# Altium footprint library Lib_lhy - 副本.PcbLib: 38 footprints (part 2 of 3)
Each footprint in its own frame and in the unit in brackets; x right, y up, seen from the top. Pads: shape width x height; smd on the part's side, far side on the other; paste and mask are expansions set on the pad; w line width, h text height; cw(c..) or ccw(c..) is an arc to the next point about the centre after c.
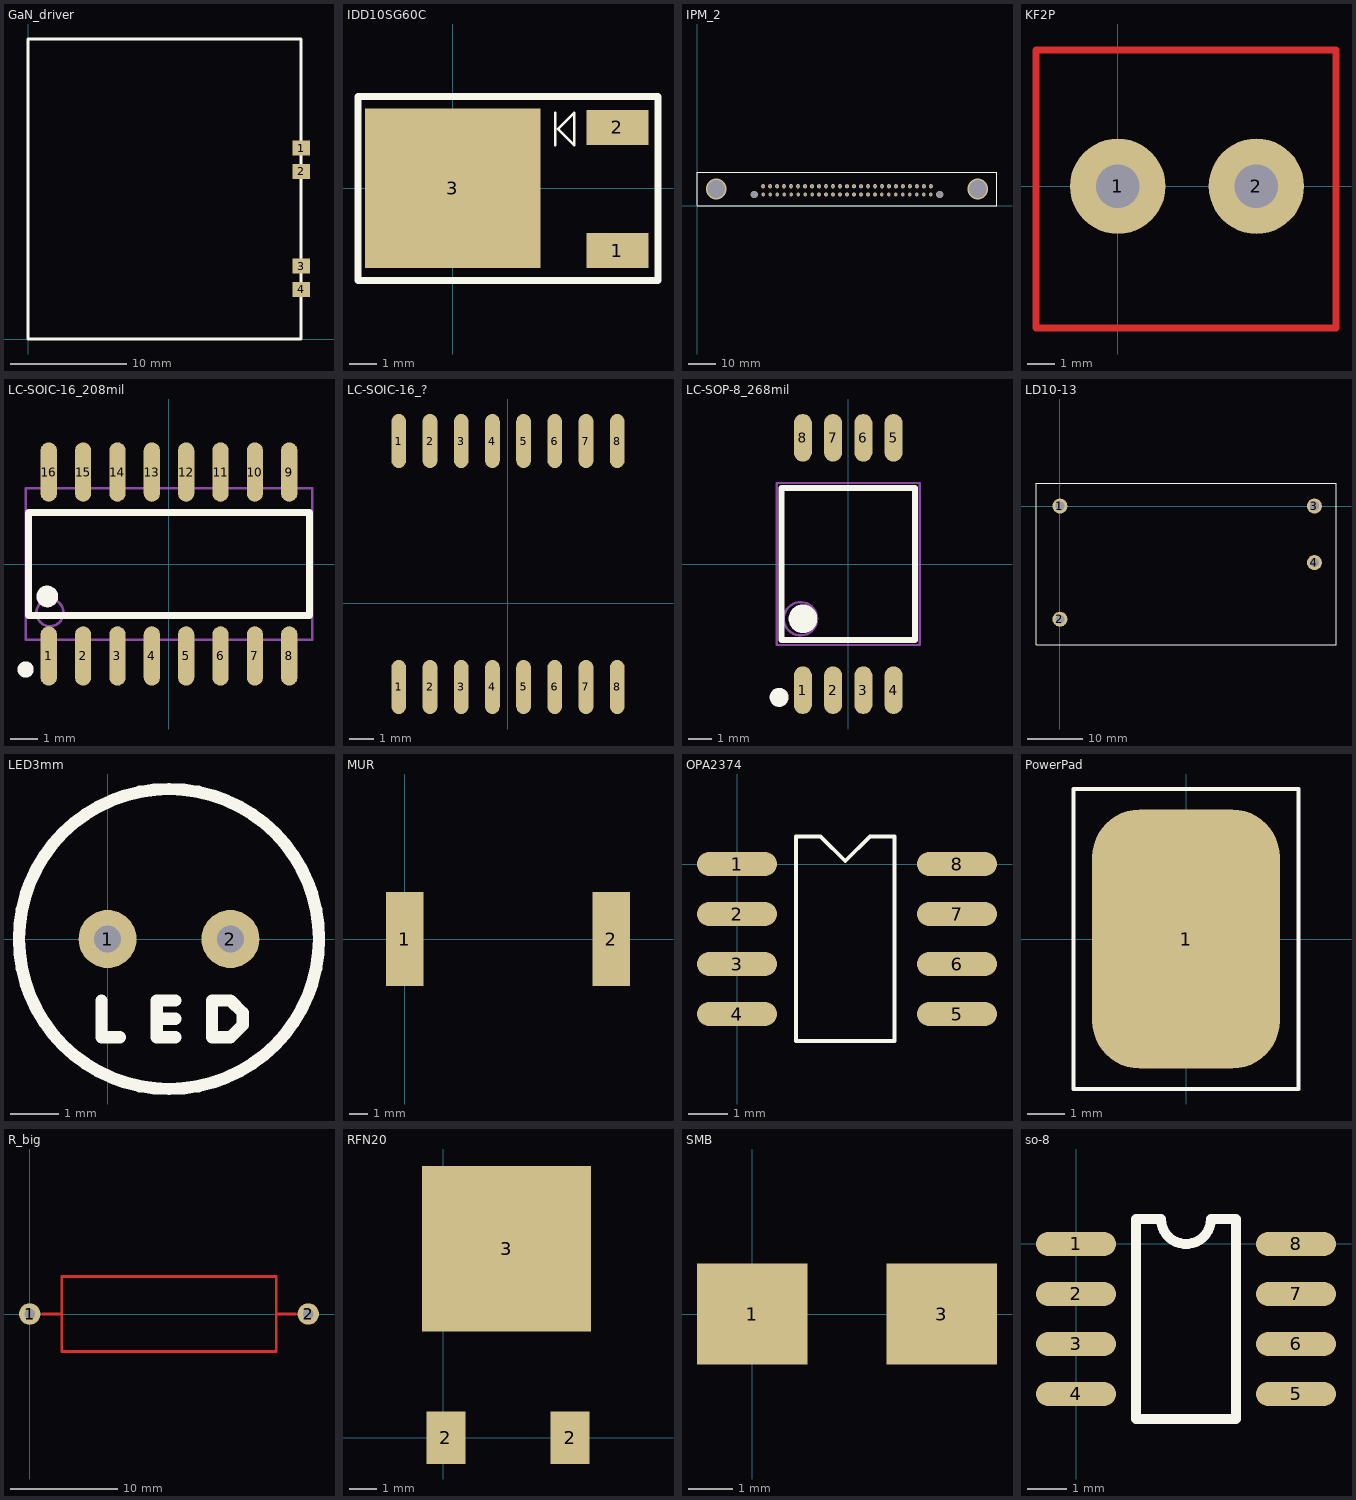
[diagram p1: the footprints below, top view; thin cyan lines are the x and y axes]

## GaN_driver [mm]
pads (4):
  rect 1.5x1.27 smd: 1(23.4,16.35) 2(23.4,14.35) 3(23.4,6.25) 4(23.4,4.25)
Top Overlay:
  lines w0.254: 0,0 0,25.7 23.4,25.7 23.4,0 0,0

## IDD10SG60C [mm]
pads (3):
  rect 2.3x1.3 smd: 1(6.1,-2.3) 2(6.1,2.26)
  rect 6.5x5.9 smd: 3(0,0)
Top Overlay:
  lines w0.1: 3.8,1.6 3.8,2.8 ; 3.9,2.2 4.5,2.8 4.5,1.6 3.9,2.2 ; 3.9,2.2 3.9,2.2
  lines w0.254: -3.5,-3.4 7.6,-3.4 7.6,3.4 -3.5,3.4 -3.5,-3.4

## IPM_2 [mm]
pads (16):
  round 1.5 hole 0.9: 1(24.02,7) 2(26.56,7) 3(29.1,7) 4(39.26,7) 5(41.8,7) 6(44.34,7) 7(54.5,7) 8(57.04,7) 9(59.58,7) 10(69.74,7) 11(72.28,7) 12(74.82,7) 13(77.36,7) 14(79.9,7) 15(82.44,7) 16(84.98,7)
via 7,6 diameter 7.5 hole 6.5
via 102,6 diameter 7.5 hole 6.5
via 84.98,4 diameter 1.3 hole 0.9
via 82.44,4 diameter 1.3 hole 0.9
via 79.9,4 diameter 1.3 hole 0.9
via 77.36,4 diameter 1.3 hole 0.9
via 74.82,4 diameter 1.3 hole 0.9
via 72.28,4 diameter 1.3 hole 0.9
via 69.74,4 diameter 1.3 hole 0.9
via 57.04,4 diameter 1.3 hole 0.9
via 54.5,4 diameter 1.3 hole 0.9
via 41.8,4 diameter 1.3 hole 0.9
via 39.26,4 diameter 1.3 hole 0.9
via 26.56,4 diameter 1.3 hole 0.9
via 24.02,4 diameter 1.3 hole 0.9
via 88.2,4 diameter 2.7 hole 2.5
via 20.8,4 diameter 2.7 hole 2.5
via 29.1,4 diameter 1.3 hole 0.9
via 31.64,4 diameter 1.3 hole 0.9
via 34.18,4 diameter 1.3 hole 0.9
via 36.72,4 diameter 1.3 hole 0.9
via 44.34,4 diameter 1.3 hole 0.9
via 46.88,4 diameter 1.3 hole 0.9
via 49.42,4 diameter 1.3 hole 0.9
via 51.96,4 diameter 1.3 hole 0.9
via 59.58,4 diameter 1.3 hole 0.9
via 62.12,4 diameter 1.3 hole 0.9
via 64.66,4 diameter 1.3 hole 0.9
via 67.2,4 diameter 1.3 hole 0.9
via 31.64,7 diameter 1.5 hole 0.9
via 34.18,7 diameter 1.5 hole 0.9
via 36.72,7 diameter 1.5 hole 0.9
via 46.88,7 diameter 1.5 hole 0.9
via 49.42,7 diameter 1.5 hole 0.9
via 51.96,7 diameter 1.5 hole 0.9
via 62.12,7 diameter 1.5 hole 0.9
via 64.66,7 diameter 1.5 hole 0.9
via 67.2,7 diameter 1.5 hole 0.9
Top Overlay:
  lines w0.254: 0,0 109,0 109,12 0,12 0,0.053

## KF2P [mm]
pads (2):
  round 3.5 hole 1.6: 1(0,0) 2(5.08,0)
Top Layer:
  lines w0.254: 0,5 -3,5 ; -3,5 8,5 8,-5.2 -3,-5.2 -3,5

## LC-SOIC-16_208mil [mm]
height 1.4
pads (16):
  oval 0.6x2.2 smd: 1(-4.445,-3.4) 2(-3.175,-3.4) 3(-1.905,-3.4) 4(-0.635,-3.4) 5(0.635,-3.4) 6(1.905,-3.4) 7(3.175,-3.4) 8(4.445,-3.4) 9(4.445,3.4) 10(3.175,3.4) 11(1.905,3.4) 12(0.635,3.4) 13(-0.635,3.4) 14(-1.905,3.4) 15(-3.175,3.4) 16(-4.445,3.4)
Top Overlay:
  circle w0.4: c-4.5,-1.2 r0.2
  circle w0.3: c-5.3,-3.9 r0.15
  lines w0.254: -5.2,-1.9 -5.2,1.9 5.2,1.9 5.2,-1.9 -5.2,-1.9
Mechanical 13:
  circle w0.1: c-4.4,-1.8 r0.5
  lines w0.1: -5.3,-2.8 -5.3,2.8 5.3,2.8 5.3,-2.8 -5.3,-2.8

## LC-SOIC-16_? [mm]
height 1.4
pads (16):
  oval 0.6x2.2 smd: 1(-4.445,-3.4) 1(-4.445,6.615) 2(-3.175,-3.4) 2(-3.175,6.615) 3(-1.905,-3.4) 3(-1.905,6.615) 4(-0.635,-3.4) 4(-0.635,6.615) 5(0.635,-3.4) 5(0.635,6.615) 6(1.905,-3.4) 6(1.905,6.615) 7(3.175,-3.4) 7(3.175,6.615) 8(4.445,-3.4) 8(4.445,6.615)

## LC-SOP-8_268mil [mm]
height 1.4
pads (8):
  oval 0.76x2 smd: 1(-1.905,-5.3) 2(-0.635,-5.3) 3(0.635,-5.3) 4(1.905,-5.3) 5(1.905,5.3) 6(0.635,5.3) 7(-0.635,5.3) 8(-1.905,5.3)
Top Overlay:
  circle w0.6: c-1.9,-2.3 r0.3
  circle w0.4: c-2.9,-5.6 r0.2
  lines w0.254: -2.8,-3.2 2.8,-3.2 2.8,3.2 -2.8,3.2 -2.8,-3.2
Mechanical 13:
  circle w0.1: c-2,-2.3 r0.7
  lines w0.1: -3,-3.4 3,-3.4 3,3.4 -3,3.4 -3,-3.4

## LD10-13 [mm]
pads (4):
  round 2.7 hole 1.6: 1(0,0) 2(0,-20.32) 3(45.72,0) 4(45.72,-10.16)
Top Overlay:
  lines w0.1: -4.3,-24.9 -4.3,4.1 49.6,4.1 49.6,-24.9 -4.3,-24.9

## LED3mm [mm]
pads (2):
  round 1.2 hole 0.55: 1(0,0) 2(2.54,0)
Top Overlay:
  circle w0.254: c1.27,0 r3.1
  lines w0.254: -0.127,-1.27 -0.127,-2.032 0.254,-2.032 ; 1.016,-1.651 1.397,-1.651 ; 1.397,-2.032 1.016,-2.032 1.016,-1.27 1.397,-1.27 ; 2.159,-2.032 2.159,-1.27 2.54,-1.27 2.794,-1.524 2.794,-1.778 2.54,-2.032 2.159,-2.032

## MUR [mm]
pads (2):
  rect 2x5 smd: 1(0,0) 2(11,0)

## OPA2374 [mil]
pads (8):
  oval 80x24 smd: 1(0,0) 2(0,-50) 3(0,-100) 4(0,-150) 5(220,-150) 6(220,-100) 7(220,-50) 8(220,0)
Top Overlay:
  lines w3.94: 59.06,-177.17 157.48,-177.17 157.48,27.56 132.87,27.56 108.27,2.95 83.66,27.56 59.06,27.56 59.06,-177.17

## PowerPad [mm]
pads (1):
  rrect50% 5x6.9 smd: 1(0,0)
Top Overlay:
  lines w0.1: -3,-4 3,-4 3,4 -3,4 -3,-4

## R_big [mm]
pads (2):
  round 2 hole 1: 1(0,0) 2(26,0)
Top Layer:
  lines w0.254: 1.2,0 3,0 3,3.5 ; 24.8,0 23,0 23,-3.5 ; 3,3.5 3,-3.5 10.5,-3.5 23,-3.5 ; 3,3.5 23,3.5 23,-3.5

## RFN20 [mm]
pads (3):
  rect 1.4x1.9 smd: 2(0.1,0) 2(4.58,0)
  rect 6.1x5.97 smd: 3(2.29,6.815)

## SMB [mm]
pads (2):
  rect 2.5x2.3 smd: 1(0,0) 3(4.3,0)

## so-8 [mil]
height 55.12
pads (8):
  oval 80x24 smd: 1(0,0) 2(0,-50) 3(0,-100) 4(0,-150) 5(220,-150) 6(220,-100) 7(220,-50) 8(220,0)
Top Overlay:
  lines w10: 60,-175 160,-175 160,25 135,25 cw(c110,25) 85,25 60,25 60,-175